# Altium footprint library 14110413001000.PcbLib: 1 footprints
Each footprint in its own frame and in the unit in brackets; x right, y up, seen from the top. Pads: shape width x height; smd on the part's side, far side on the other; paste and mask are expansions set on the pad; w line width, h text height; cw(c..) or ccw(c..) is an arc to the next point about the centre after c.
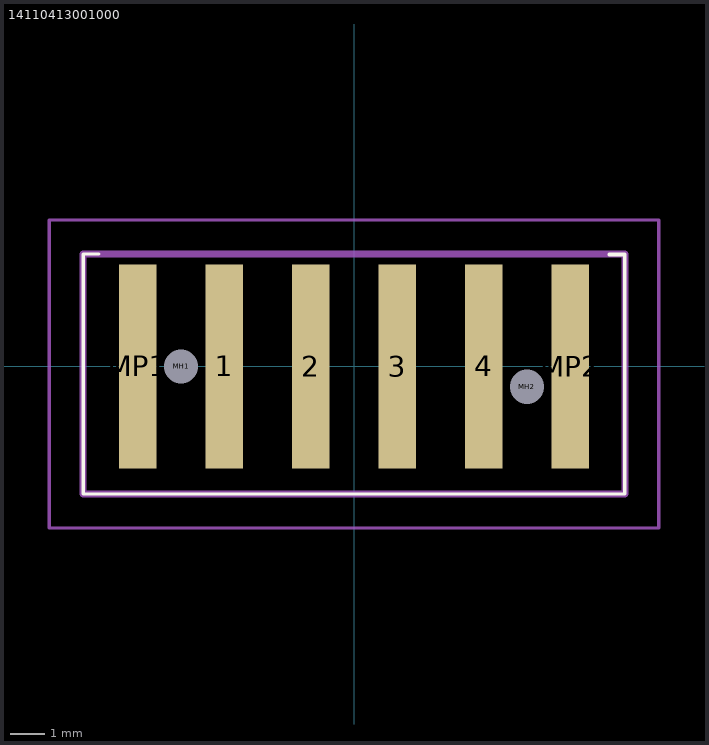
[diagram p0: the footprint, top view; thin cyan lines are the x and y axes]

## 14110413001000 [mm]
pads (8):
  rect 1.1x6 smd: 1(-3.81,0) 2(-1.27,0) 3(1.27,0) 4(3.81,0) MP1(-6.35,0) MP2(6.35,0)
  round 0.5 hole 1 unplated: MH1(-5.08,0) MH2(5.08,-0.6)
Top Overlay:
  lines w0.1: -7.96,-3.75 7.96,-3.75 ; -7.96,-3.75 7.96,-3.75 ; -7.96,-3.75 -7.96,-3.75 ; -7.96,-3.75 -7.96,3.275 ; -7.96,-3.75 -7.96,-3.75 ; -7.96,-3.75 -7.96,3.275 ; -7.96,3.275 -7.96,3.275 ; -7.96,3.3 -7.5,3.3 ; -7.96,3.3 -7.96,3.3 ; -7.96,3.3 -7.5,3.3 ; -7.5,3.3 -7.5,3.3 ; 7.96,-3.75 7.96,-3.75 ; 7.96,-3.75 7.96,-3.75 ; 7.96,-3.75 7.96,3.275 ; 7.96,-3.75 7.96,3.275 ; 7.96,3.275 7.5,3.275 7.5,3.3 7.96,3.3 7.96,3.275 ; 7.96,3.275 7.96,3.275
Mechanical 15:
  lines w0.2: -7.96,-3.75 7.96,-3.75 7.96,3.3 -7.96,3.3 -7.96,-3.75
Mechanical 20:
  lines w0.1: -8.96,-4.75 8.96,-4.75 8.96,4.3 -8.96,4.3 -8.96,-4.75